# Altium footprint library PCB - INDUCTOR - RF - Murata LQW15 0402.PCBLIB: 1 footprints
Each footprint in its own frame and in the unit in brackets; x right, y up, seen from the top. Pads: shape width x height; smd on the part's side, far side on the other; paste and mask are expansions set on the pad; w line width, h text height; cw(c..) or ccw(c..) is an arc to the next point about the centre after c.
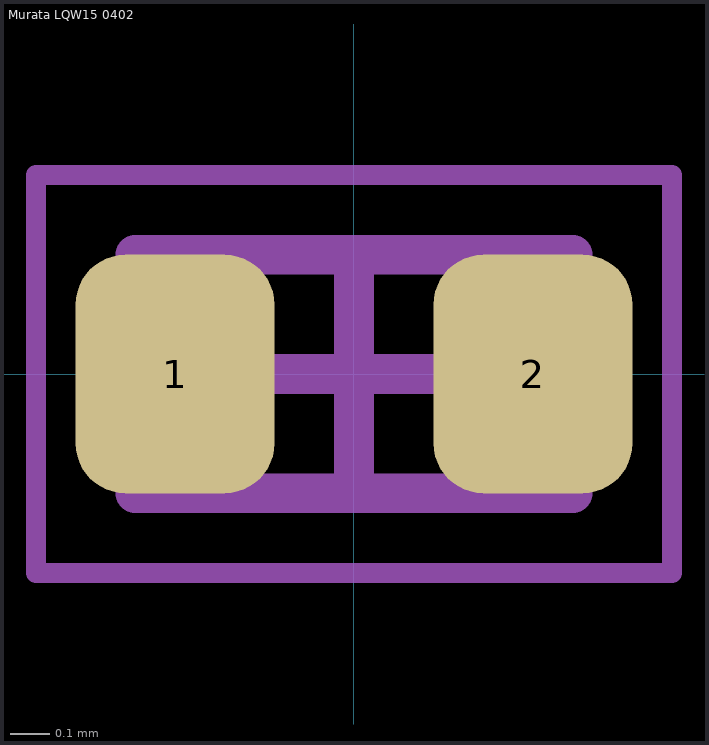
[diagram p0: the footprint, top view; thin cyan lines are the x and y axes]

## Murata LQW15 0402 [mm] "Chip Inductor, 2-Leads, Body 1.00x0.50mm, IPC High Density"
height 0.6
pads (2):
  rrect50% 0.5x0.6 smd: 1(-0.45,0) 2(0.45,0)
Top Assembly:
  lines w0.1: -0.55,-0.3 -0.55,0.3 0.55,0.3 0.55,-0.3 -0.55,-0.3
  text ".Designator" at -2.25,0.574 h1
Top Component Center:
  lines w0.1: -0.3,0 0.3,0 ; 0,-0.3 0,0.3
Top Courtyard:
  lines w0.05: -0.8,-0.5 -0.8,0.5 0.8,0.5 0.8,-0.5 -0.8,-0.5
3D body "IND-WireWound_TOP.STEP": height 0.51, standoff 0.26, extent -0.5,-0.287 0.5,0.287
3D body "IND-WireWound.STEP": height 0.5, standoff 0, extent -0.5,-0.277 0.5,0.277